# Altium footprint library MBT44.PcbLib: 1 footprints
Each footprint in its own frame and in the unit in brackets; x right, y up, seen from the top. Pads: shape width x height; smd on the part's side, far side on the other; paste and mask are expansions set on the pad; w line width, h text height; cw(c..) or ccw(c..) is an arc to the next point about the centre after c.
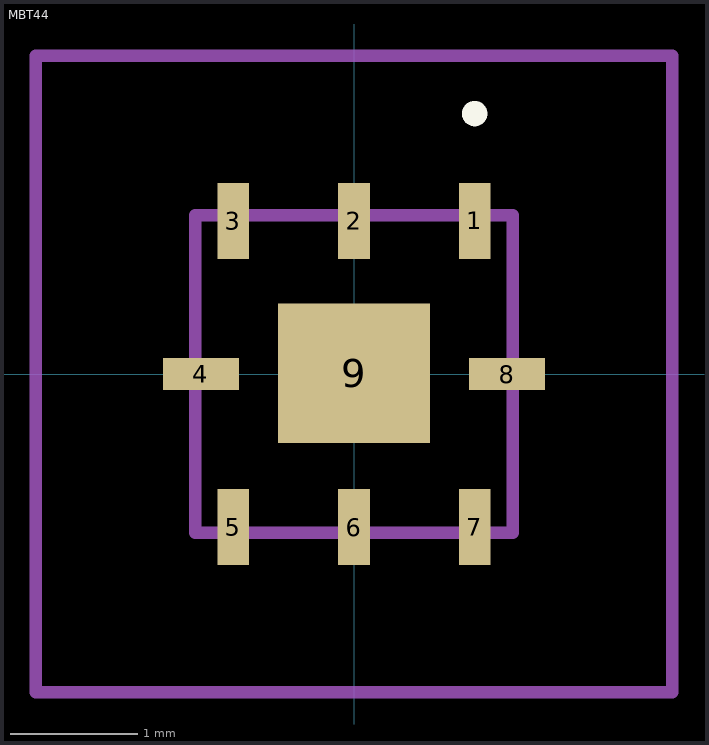
[diagram p0: the footprint, top view; thin cyan lines are the x and y axes]

## MBT44 [mm]
pads (9):
  rect 0.25x0.6 smd: 1(0.95,1.205) 2(0,1.205) 3(-0.95,1.205) 5(-0.95,-1.205) 6(0,-1.205) 7(0.95,-1.205)
  rect 0.6x0.25 smd: 4(-1.205,0) 8(1.205,0)
  rect 1.2x1.1 smd: 9(0,0.005)
Top Overlay:
  lines w0.1: 0.95,2 cw(c0.95,2.05) 0.95,2.1 ; 0.95,2 0.95,2 ; 0.95,2 ccw(c0.95,2.05) 0.95,2.1 ; 0.95,2.1 0.95,2.1
Mechanical 15:
  lines w0.1: -1.25,-1.25 -1.25,1.25 1.25,1.25 1.25,-1.25 -1.25,-1.25
Mechanical 20:
  lines w0.1: -2.505,-2.505 2.505,-2.505 2.505,2.505 -2.505,2.505 -2.505,-2.505